# Altium schematic symbol library CAP-0402.SchLib: 5 symbols
Pins are listed as number, name and electrical type; pins without a type are passive.

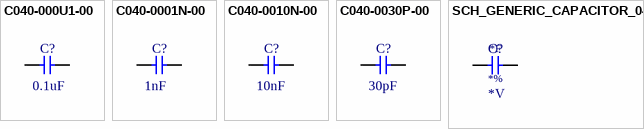
[diagram p0: symbols C040-000U1-00 to SCH_GENERIC_CAPACITOR_0402]

## C040-000U1-00
designator C?  value 0.1uF  (hidden comment: C040-000U1-00)
CAP CER 0402 0.1uF 10V X5R 10%; Tolerance: 10%; Voltage: 10V; Package: 0402
footprint CAPC1005X06N (Chip Capacitor, 2-Leads, Body 1.00x0.50mm, IPC Medium Density)
pins: 1, 2

## C040-0001N-00
designator C?  value 1nF  (hidden comment: C040-0001N-00)
CAP CER 0402 1nF 50V X7R 10%; Package: 0402; Tolerance: 10%; Voltage: 50V
footprint CAPC1005X06N (Chip Capacitor, 2-Leads, Body 1.00x0.50mm, IPC Medium Density)
pins: 1, 2

## C040-0010N-00
designator C?  value 10nF  (hidden comment: C040-0010N-00)
CAP CER 0402 10nF 50V X7R 10%; Package: 0402; Tolerance: 10%; Voltage: 50V
footprint CAPC1005X06N (Chip Capacitor, 2-Leads, Body 1.00x0.50mm, IPC Medium Density)
pins: 1, 2

## C040-0030P-00
designator C?  value 30pF  (hidden comment: C040-0030P-00)
CAP CER 0402 30pF 25V NP0 5%; Tolerance: 5%; Voltage: 25V; Package: 0402
footprint CAPC1005X06N (Chip Capacitor, 2-Leads, Body 1.00x0.50mm, IPC Medium Density)
pins: 1, 2

## SCH_GENERIC_CAPACITOR_0402
designator C?  Tolerance: *%  Capacitance: *F  Voltage: *V  (hidden comment: SCH_GENERIC_CAPACITOR_0402)
Generic SMD capacitor 0402
footprint CAPC1005X06N (Chip Capacitor, 2-Leads, Body 1.00x0.50mm, IPC Medium Density)
pins: 1, 2